# Altium schematic symbol library SCH - ARM CORTEX - STM STM32L011F(3-4)Ux.SchLib: 1 symbol
Pins are listed as number, name and electrical type; pins without a type are passive.

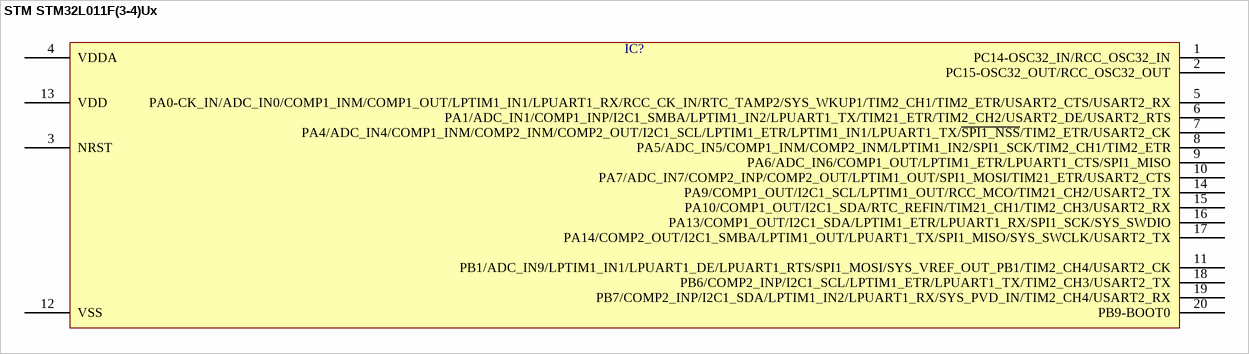
[diagram p0: symbol STM STM32L011F(3-4)Ux]

## STM STM32L011F(3-4)Ux
designator IC?  (value not drawn)
pins: 1 PC14-OSC32_IN/RCC_OSC32_IN, 2 PC15-OSC32_OUT/RCC_OSC32_OUT, 3 NRST, 4 VDDA, 5 PA0-CK_IN/ADC_IN0/COMP1_INM/COMP1_OUT/LPTIM1_IN1/LPUART1_RX/RCC_CK_IN/RTC_TAMP2/SYS_WKUP1/TIM2_CH1/TIM2_ETR/USART2_CTS/USART2_RX, 6 PA1/ADC_IN1/COMP1_INP/I2C1_SMBA/LPTIM1_IN2/LPUART1_TX/TIM21_ETR/TIM2_CH2/USART2_DE/USART2_RTS, 7 PA4/ADC_IN4/COMP1_INM/COMP2_INM/COMP2_OUT/I2C1_SCL/LPTIM1_ETR/LPTIM1_IN1/LPUART1_TX/~{SPI1_NSS}/TIM2_ETR/USART2_CK, 8 PA5/ADC_IN5/COMP1_INM/COMP2_INM/LPTIM1_IN2/SPI1_SCK/TIM2_CH1/TIM2_ETR, 9 PA6/ADC_IN6/COMP1_OUT/LPTIM1_ETR/LPUART1_CTS/SPI1_MISO, 10 PA7/ADC_IN7/COMP2_INP/COMP2_OUT/LPTIM1_OUT/SPI1_MOSI/TIM21_ETR/USART2_CTS, 11 PB1/ADC_IN9/LPTIM1_IN1/LPUART1_DE/LPUART1_RTS/SPI1_MOSI/SYS_VREF_OUT_PB1/TIM2_CH4/USART2_CK, 12 VSS, 13 VDD, 14 PA9/COMP1_OUT/I2C1_SCL/LPTIM1_OUT/RCC_MCO/TIM21_CH2/USART2_TX, 15 PA10/COMP1_OUT/I2C1_SDA/RTC_REFIN/TIM21_CH1/TIM2_CH3/USART2_RX, 16 PA13/COMP1_OUT/I2C1_SDA/LPTIM1_ETR/LPUART1_RX/SPI1_SCK/SYS_SWDIO, 17 PA14/COMP2_OUT/I2C1_SMBA/LPTIM1_OUT/LPUART1_TX/SPI1_MISO/SYS_SWCLK/USART2_TX, 18 PB6/COMP2_INP/I2C1_SCL/LPTIM1_ETR/LPUART1_TX/TIM2_CH3/USART2_TX, 19 PB7/COMP2_INP/I2C1_SDA/LPTIM1_IN2/LPUART1_RX/SYS_PVD_IN/TIM2_CH4/USART2_RX, 20 PB9-BOOT0